# EAGLE library part SN74HC04 (library bschulz)
SN74HC04 - NOT, 4 Element, 1 Input - Hex Inverter Characteristics: VCC: 2 ~ 6Vv IQ = <2μA Operating Temperature: -40°C to 85°C Digikey: 296-8208-1-ND <https://www.digikey.com/en/products/detail/texas-instruments/SN74HC04PWR/377033>
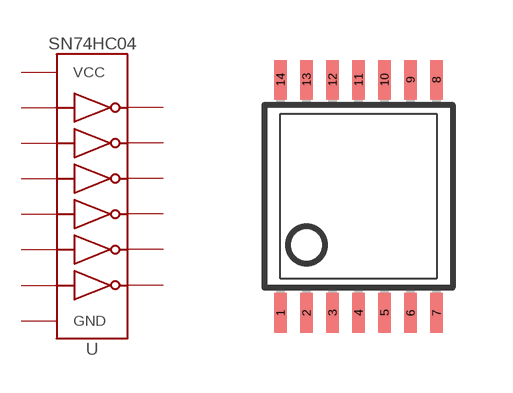
[diagram p157: symbol with the pads of TSSOP14; footprint TSSOP14]

Designator prefix U

## SN74HC04 (DIGIKEY: 296-8208-1-ND; MF: TI; MPN: SN74HC04PWR)  [TSSOP14]
1  A1  in
2  Y1  out
3  A2  in
4  Y2  out
5  A3  in
6  Y3  out
7  GND  pwr
8  Y4  out
9  A4  in
10  Y5  out
11  A5  in
12  Y6  out
13  A6  in
14  VCC  pwr

## Footprint TSSOP14 (pad centres in mm)
Thin Shrink Small Outline Plastic 14 0.65mm pitch, 14 pin Datasheet <https://pdfserv.maximintegrated.com/en/ds/MAX3221-MAX3243.pdf>
smd 0.305 x 0.991: 1 -1.95,-2.918; 2 -1.3,-2.918; 3 -0.65,-2.918; 4 0,-2.918; 5 0.65,-2.918; 6 1.3,-2.918; 7 1.95,-2.918; 8 1.95,2.918; 9 1.3,2.918; 10 0.65,2.918; 11 0,2.918; 12 -0.65,2.918; 13 -1.3,2.918; 14 -1.95,2.918